# Altium footprint library Microprocessors.PcbLib: 17 footprints (part 1 of 2)
Each footprint in its own frame and in the unit in brackets; x right, y up, seen from the top. Pads: shape width x height; smd on the part's side, far side on the other; paste and mask are expansions set on the pad; w line width, h text height; cw(c..) or ccw(c..) is an arc to the next point about the centre after c.
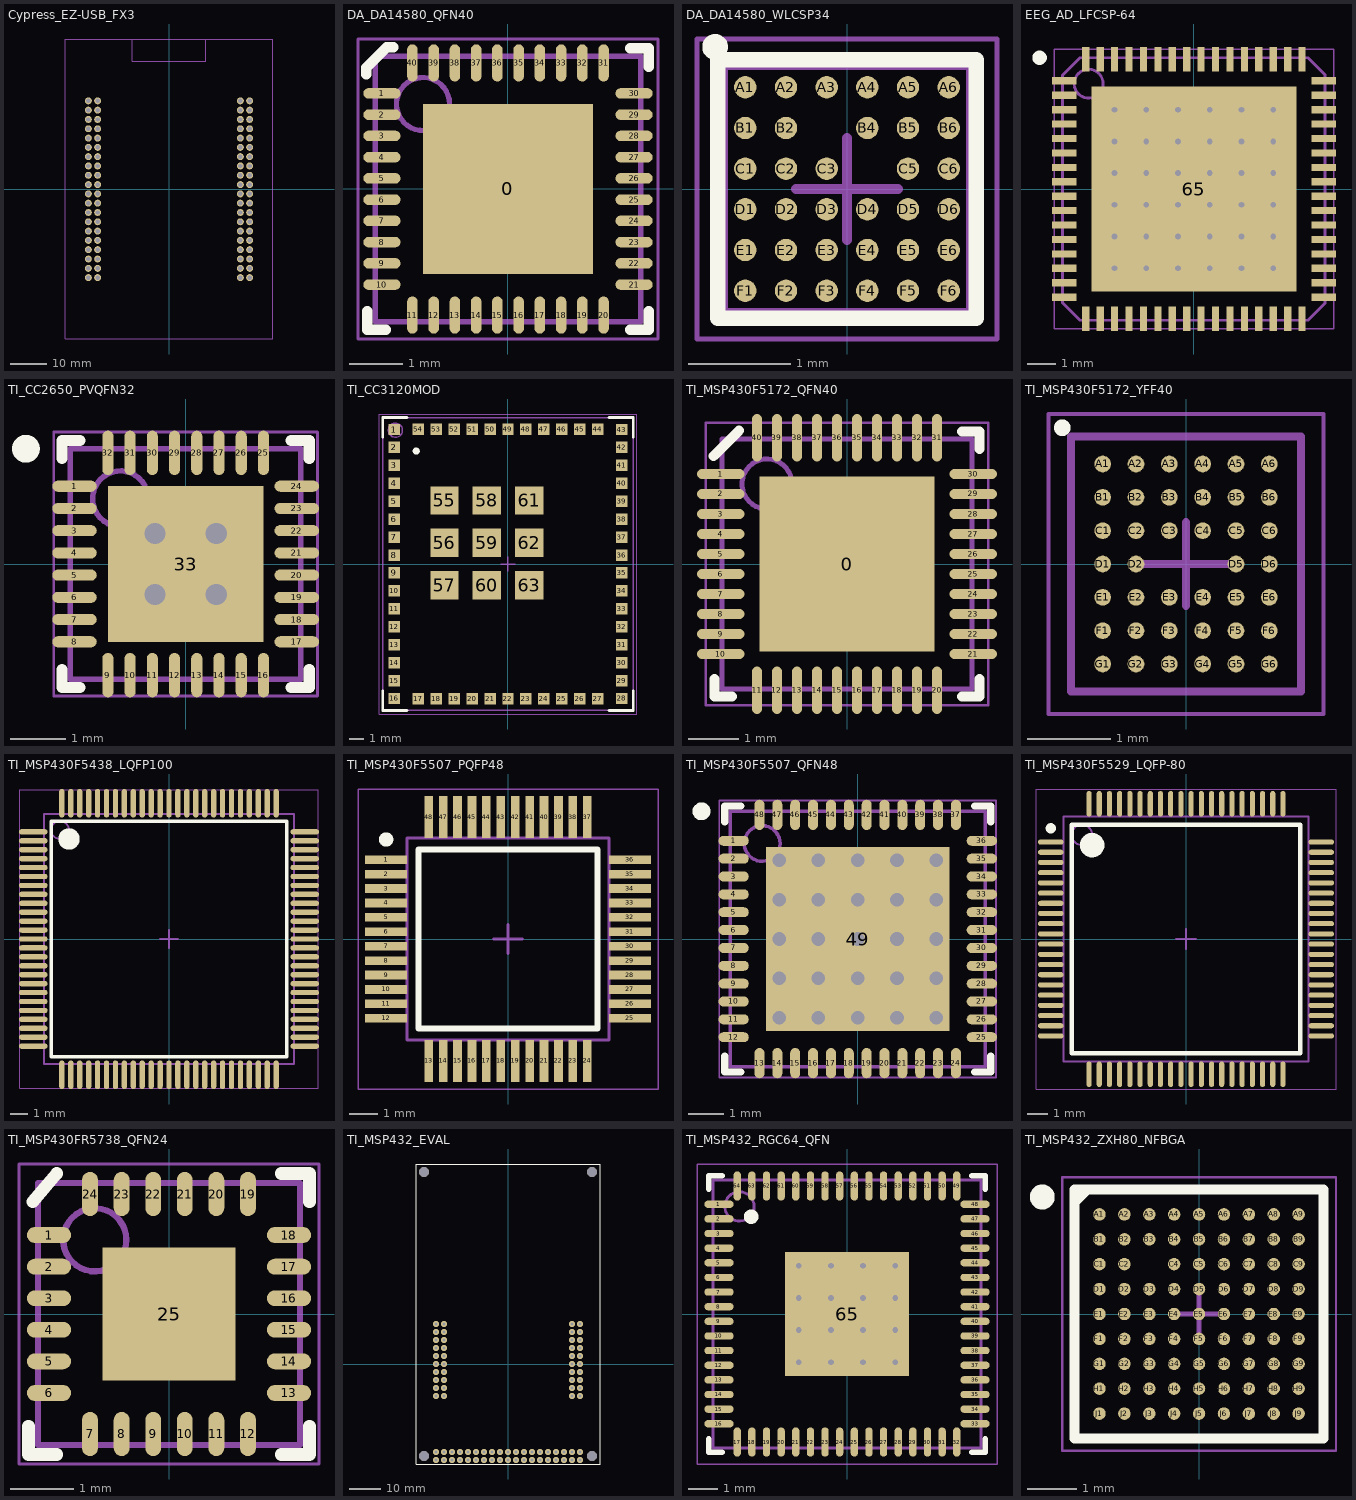
[diagram p0: the footprints below, top view; thin cyan lines are the x and y axes]

## Cypress_EZ-USB_FX3 [mm]
pads (80):
  round 1.9 hole 1.2: 1(-22.02,24.13) 2(-22.02,21.59) 3(-22.02,19.05) 4(-22.02,16.51) 5(-22.02,13.97) 6(-22.02,11.43) 7(-22.02,8.89) 8(-22.02,6.35) 9(-22.02,3.81) 10(-22.02,1.27) 11(-22.02,-1.27) 12(-22.02,-3.81) 13(-22.02,-6.35) 14(-22.02,-8.89) 15(-22.02,-11.43) 16(-22.02,-13.97) 17(-22.02,-16.51) 18(-22.02,-19.05) 19(-22.02,-21.59) 20(-22.02,-24.13) 21(-19.48,24.13) 22(-19.48,21.59) 23(-19.48,19.05) 24(-19.48,16.51) 25(-19.48,13.97) 26(-19.48,11.43) 27(-19.48,8.89) 28(-19.48,6.35) 29(-19.48,3.81) 30(-19.48,1.27) 31(-19.48,-1.27) 32(-19.48,-3.81) 33(-19.48,-6.35) 34(-19.48,-8.89) 35(-19.48,-11.43) 36(-19.48,-13.97) 37(-19.48,-16.51) 38(-19.48,-19.05) 39(-19.48,-21.59) 40(-19.48,-24.13) 41(19.48,24.13) 42(19.48,21.59) 43(19.48,19.05) 44(19.48,16.51) 45(19.48,13.97) 46(19.48,11.43) 47(19.48,8.89) 48(19.48,6.35) 49(19.48,3.81) 50(19.48,1.27) 51(19.48,-1.27) 52(19.48,-3.81) 53(19.48,-6.35) 54(19.48,-8.89) 55(19.48,-11.43) 56(19.48,-13.97) 57(19.48,-16.51) 58(19.48,-19.05) 59(19.48,-21.59) 60(19.48,-24.13) 61(22.02,24.13) 62(22.02,21.59) 63(22.02,19.05) 64(22.02,16.51) 65(22.02,13.97) 66(22.02,11.43) 67(22.02,8.89) 68(22.02,6.35) 69(22.02,3.81) 70(22.02,1.27) 71(22.02,-1.27) 72(22.02,-3.81) 73(22.02,-6.35) 74(22.02,-8.89) 75(22.02,-11.43) 76(22.02,-13.97) 77(22.02,-16.51) 78(22.02,-19.05) 79(22.02,-21.59) 80(22.02,-24.13)
Mechanical 15:
  lines w0.2: -10,41 -10,35 10,35 10,41 ; -28.321,-40.894 -16.51,-40.894 22.225,-40.894 28.321,-40.894 28.321,41.021 7.366,41.021 -22.987,41.021 -28.321,41.021 -28.321,-32.766 -28.321,-40.132 -28.321,-40.894
3D body "Header_.100_20x2.stp": height 8.77, standoff -2.77, extent -23.241,-25.4 -18.161,25.4
3D body "Header_.100_20x2.stp": height 8.77, standoff -2.77, extent 18.161,-25.4 23.241,25.4

## DA_DA14580_QFN40 [mm] "QFN, 40-Leads, Body 5.00x5.00mm, Pitch 0.40mm, Thermal Pad 3.65x3.65mm, IPC High Density"
height 0.9
pads (41):
  rect 3.2x3.2 smd mask+0.05: 0(0,0)
  oval 0.7x0.2 smd mask+0.05: 1(-2.375,1.8) 2(-2.375,1.4) 3(-2.375,1) 4(-2.375,0.6) 5(-2.375,0.2) 6(-2.375,-0.2) 7(-2.375,-0.6) 8(-2.375,-1) 9(-2.375,-1.4) 10(-2.375,-1.8) 21(2.375,-1.8) 22(2.375,-1.4) 23(2.375,-1) 24(2.375,-0.6) 25(2.375,-0.2) 26(2.375,0.2) 27(2.375,0.6) 28(2.375,1) 29(2.375,1.4) 30(2.375,1.8)
  oval 0.2x0.7 smd mask+0.05: 11(-1.8,-2.375) 12(-1.4,-2.375) 13(-1,-2.375) 14(-0.6,-2.375) 15(-0.2,-2.375) 16(0.2,-2.375) 17(0.6,-2.375) 18(1,-2.375) 19(1.4,-2.375) 20(1.8,-2.375) 31(1.8,2.375) 32(1.4,2.375) 33(1,2.375) 34(0.6,2.375) 35(0.2,2.375) 36(-0.2,2.375) 37(-0.6,2.375) 38(-1,2.375) 39(-1.4,2.375) 40(-1.8,2.375)
Top Overlay:
  lines w0.2: -2.667,2.159 -2.667,2.286 -2.3,2.65 ; -2.65,-2.3 -2.65,-2.65 -2.3,-2.65 ; -2.286,2.667 -2.159,2.667 ; 2.3,-2.65 2.65,-2.65 2.65,-2.3 ; 2.3,2.65 2.65,2.65 2.65,2.3
Mechanical 13:
  circle w0.1: c-1.6,1.6 r0.5
  lines w0.1: -2.5,-2.5 -2.5,2.5 2.5,2.5 2.5,-2.5 -2.5,-2.5
Mechanical 15:
  lines w0.05: -2.825,-2.825 -2.825,2.825 2.825,2.825 2.825,-2.825 -2.825,-2.825
  lines w0.1: -0.5,0 0.5,0 ; 0,-0.5 0,0.5
3D body "DA_DA14580_QFN40.step": height 0.9, standoff 0, extent -2.501,-2.501 2.501,2.501

## DA_DA14580_WLCSP34 [mm] "BGA, 34-Leads, Body 2.44x2.44mmx0.55mm, Pitch 0.40mm"
height 0.56
pads (34):
  round 0.22 smd mask+0.04: A1(-1,1) A2(-0.6,1) A3(-0.2,1) A4(0.2,1) A5(0.6,1) A6(1,1) B1(-1,0.6) B2(-0.6,0.6) B4(0.2,0.6) B5(0.6,0.6) B6(1,0.6) C1(-1,0.2) C2(-0.6,0.2) C3(-0.2,0.2) C5(0.6,0.2) C6(1,0.2) D1(-1,-0.2) D2(-0.6,-0.2) D3(-0.2,-0.2) D4(0.2,-0.2) D5(0.6,-0.2) D6(1,-0.2) E1(-1,-0.6) E2(-0.6,-0.6) E3(-0.2,-0.6) E4(0.2,-0.6) E5(0.6,-0.6) E6(1,-0.6) F1(-1,-1) F2(-0.6,-1) F3(-0.2,-1) F4(0.2,-1) F5(0.6,-1) F6(1,-1)
Top Overlay:
  circle w0.152: c-1.297,1.397 r0.05
  lines w0.152: -1.27,-1.27 -1.27,1.27 1.27,1.27 1.27,-1.27 -1.27,-1.27
Mechanical 13:
  lines w0.1: -1.22,-1.22 -1.22,1.22 1.22,1.22 1.22,-1.22 -1.22,-1.22
Mechanical 15:
  lines w0.05: -1.475,-1.475 -1.475,1.475 1.475,1.475 1.475,-1.475 -1.475,-1.475
  lines w0.1: -0.5,0 0.5,0 ; 0,-0.5 0,0.5
3D body "DA_DA14580_WLCSP34.step": height 0.55, standoff 0, extent -1.22,-1.22 1.22,1.22

## EEG_AD_LFCSP-64 [mm] "QFN, 64-Leads, Body 9.00x9.00mm, Pitch 0.50mm, Thermal Pad 7.10x7.10mm, IPC High Density"
height 1
pads (65):
  rect 0.85x0.25 smd mask+0.07: 1(-4.5,3.75) 2(-4.5,3.25) 3(-4.5,2.75) 4(-4.5,2.25) 5(-4.5,1.75) 6(-4.5,1.25) 7(-4.5,0.75) 8(-4.5,0.25) 9(-4.5,-0.25) 10(-4.5,-0.75) 11(-4.5,-1.25) 12(-4.5,-1.75) 13(-4.5,-2.25) 14(-4.5,-2.75) 15(-4.5,-3.25) 16(-4.5,-3.75) 33(4.5,-3.75) 34(4.5,-3.25) 35(4.5,-2.75) 36(4.5,-2.25) 37(4.5,-1.75) 38(4.5,-1.25) 39(4.5,-0.75) 40(4.5,-0.25) 41(4.5,0.25) 42(4.5,0.75) 43(4.5,1.25) 44(4.5,1.75) 45(4.5,2.25) 46(4.5,2.75) 47(4.5,3.25) 48(4.5,3.75)
  rect 0.25x0.85 smd mask+0.07: 17(-3.75,-4.5) 18(-3.25,-4.5) 19(-2.75,-4.5) 20(-2.25,-4.5) 21(-1.75,-4.5) 22(-1.25,-4.5) 23(-0.75,-4.5) 24(-0.25,-4.5) 25(0.25,-4.5) 26(0.75,-4.5) 27(1.25,-4.5) 28(1.75,-4.5) 29(2.25,-4.5) 30(2.75,-4.5) 31(3.25,-4.5) 32(3.75,-4.5) 49(3.75,4.5) 50(3.25,4.5) 51(2.75,4.5) 52(2.25,4.5) 53(1.75,4.5) 54(1.25,4.5) 55(0.75,4.5) 56(0.25,4.5) 57(-0.25,4.5) 58(-0.75,4.5) 59(-1.25,4.5) 60(-1.75,4.5) 61(-2.25,4.5) 62(-2.75,4.5) 63(-3.25,4.5) 64(-3.75,4.5)
  rect 7.1x7.1 smd: 65(0,0)
via 2.75,-2.75 diameter 0.5 hole 0.2
via 1.65,-2.75 diameter 0.5 hole 0.2
via 0.55,-2.75 diameter 0.5 hole 0.2
via -0.55,-2.75 diameter 0.5 hole 0.2
via -1.65,-2.75 diameter 0.5 hole 0.2
via -2.75,-2.75 diameter 0.5 hole 0.2
via 2.75,-1.65 diameter 0.5 hole 0.2
via 1.65,-1.65 diameter 0.5 hole 0.2
via 0.55,-1.65 diameter 0.5 hole 0.2
via -0.55,-1.65 diameter 0.5 hole 0.2
via -1.65,-1.65 diameter 0.5 hole 0.2
via -2.75,-1.65 diameter 0.5 hole 0.2
via 2.75,-0.55 diameter 0.5 hole 0.2
via 1.65,-0.55 diameter 0.5 hole 0.2
via 0.55,-0.55 diameter 0.5 hole 0.2
via -0.55,-0.55 diameter 0.5 hole 0.2
via -1.65,-0.55 diameter 0.5 hole 0.2
via -2.75,-0.55 diameter 0.5 hole 0.2
via 2.75,0.55 diameter 0.5 hole 0.2
via 1.65,0.55 diameter 0.5 hole 0.2
via 0.55,0.55 diameter 0.5 hole 0.2
via -0.55,0.55 diameter 0.5 hole 0.2
via -1.65,0.55 diameter 0.5 hole 0.2
via -2.75,0.55 diameter 0.5 hole 0.2
via 2.75,1.65 diameter 0.5 hole 0.2
via 1.65,1.65 diameter 0.5 hole 0.2
via 0.55,1.65 diameter 0.5 hole 0.2
via -0.55,1.65 diameter 0.5 hole 0.2
via -1.65,1.65 diameter 0.5 hole 0.2
via -2.75,1.65 diameter 0.5 hole 0.2
via 2.75,2.75 diameter 0.5 hole 0.2
via 1.65,2.75 diameter 0.5 hole 0.2
via 0.55,2.75 diameter 0.5 hole 0.2
via -0.55,2.75 diameter 0.5 hole 0.2
via -1.65,2.75 diameter 0.5 hole 0.2
via -2.75,2.75 diameter 0.5 hole 0.2
Top Overlay:
  circle w0.25: c-5.35,4.55 r0.125
Mechanical 13:
  circle w0.1: c-3.65,3.65 r0.5
  lines w0.1: -4.55,-3.95 -4.55,3.95 -3.95,4.55 3.95,4.55 4.55,3.95 4.55,-3.95 3.95,-4.55 -3.95,-4.55 -4.55,-3.95
Mechanical 15:
  lines w0.05: -4.85,-4.85 4.85,-4.85 4.85,4.85 -4.85,4.85 -4.85,-4.85
  lines w0.1: -0.5,0 0.5,0 ; 0,-0.5 0,0.5
3D body "EEG_AD_LFCSP-64.step": height 1, standoff 0, extent -4.551,-4.551 4.551,4.551

## TI_CC2650_PVQFN32 [mm] "QFN, 32-Leads, Body 4.00x4.00mm, Pitch 0.40mm, Thermal Pad 2.80x2.80mm, IPC High Density"
height 1
pads (33):
  oval 0.8x0.2 smd mask+0.023: 1(-2,1.4) 2(-2,1) 3(-2,0.6) 4(-2,0.2) 5(-2,-0.2) 6(-2,-0.6) 7(-2,-1) 8(-2,-1.4) 17(2,-1.4) 18(2,-1) 19(2,-0.6) 20(2,-0.2) 21(2,0.2) 22(2,0.6) 23(2,1) 24(2,1.4)
  oval 0.2x0.8 smd mask+0.023: 9(-1.4,-2) 10(-1,-2) 11(-0.6,-2) 12(-0.2,-2) 13(0.2,-2) 14(0.6,-2) 15(1,-2) 16(1.4,-2) 25(1.4,2) 26(1,2) 27(0.6,2) 28(0.2,2) 29(-0.2,2) 30(-0.6,2) 31(-1,2) 32(-1.4,2)
  rect 2.8x2.8 smd mask+0.023: 33(0,0)
via -0.55,0.55 diameter 0.635 hole 0.381
via 0.55,0.55 diameter 0.635 hole 0.381
via -0.55,-0.55 diameter 0.635 hole 0.381
via 0.55,-0.55 diameter 0.635 hole 0.381
Top Overlay:
  circle w0.25: c-2.875,2.075 r0.125
  lines w0.2: -2.225,-1.9 -2.225,-2.225 -1.9,-2.225 ; -2.225,1.9 -2.225,2.225 -1.9,2.225 ; 1.9,-2.225 2.225,-2.225 2.225,-1.9 ; 1.9,2.225 2.225,2.225 2.225,1.9
Mechanical 13:
  circle w0.1: c-1.175,1.175 r0.5
  lines w0.1: -2.075,-2.075 -2.075,2.075 2.075,2.075 2.075,-2.075 -2.075,-2.075
Mechanical 15:
  lines w0.05: -2.375,-2.375 -2.375,2.375 2.375,2.375 2.375,-2.375 -2.375,-2.375
  lines w0.1: -0.5,0 0.5,0 ; 0,-0.5 0,0.5
3D body "TI_CC2650_PVQFN32.step": height 1, standoff 0, extent -2.125,-2.125 2.125,2.125

## TI_CC3120MOD [mm] "PQFN, 54-Leads, Body 17.50x20.50mm, Pitch 1.27mm, IPC Medium Density"
height 2.45
pads (63):
  rect 0.81x0.81 smd: 1(-8.05,9.525) 2(-8.05,8.255) 3(-8.05,6.985) 4(-8.05,5.715) 5(-8.05,4.445) 6(-8.05,3.175) 7(-8.05,1.905) 8(-8.05,0.635) 9(-8.05,-0.635) 10(-8.05,-1.905) 11(-8.05,-3.175) 12(-8.05,-4.445) 13(-8.05,-5.715) 14(-8.05,-6.985) 15(-8.05,-8.255) 16(-8.05,-9.525) 17(-6.35,-9.55) 18(-5.08,-9.55) 19(-3.81,-9.55) 20(-2.54,-9.55) 21(-1.27,-9.55) 22(0,-9.55) 23(1.27,-9.55) 24(2.54,-9.55) 25(3.81,-9.55) 26(5.08,-9.55) 27(6.35,-9.55) 28(8.05,-9.525) 29(8.05,-8.255) 30(8.05,-6.985) 31(8.05,-5.715) 32(8.05,-4.445) 33(8.05,-3.175) 34(8.05,-1.905) 35(8.05,-0.635) 36(8.05,0.635) 37(8.05,1.905) 38(8.05,3.175) 39(8.05,4.445) 40(8.05,5.715) 41(8.05,6.985) 42(8.05,8.255) 43(8.05,9.525) 44(6.35,9.55) 45(5.08,9.55) 46(3.81,9.55) 47(2.54,9.55) 48(1.27,9.55) 49(0,9.55) 50(-1.27,9.55) 51(-2.54,9.55) 52(-3.81,9.55) 53(-5.08,9.55) 54(-6.35,9.55)
  rect 2x2 smd: 55(-4.5,4.5) 56(-4.5,1.5) 57(-4.5,-1.5) 58(-1.5,4.5) 59(-1.5,1.5) 60(-1.5,-1.5) 61(1.5,4.5) 62(1.5,1.5) 63(1.5,-1.5)
Top Overlay:
  circle w0.25: c-6.5,8 r0.125
  lines w0.2: -8.875,-9 -8.875,-10.375 -7.155,-10.375 ; -8.875,9 -8.875,10.33 ; -8.875,10.375 -7.155,10.375 ; 7.155,-10.375 8.875,-10.375 8.875,-9 ; 7.155,10.375 8.875,10.375 ; 8.875,9 8.875,10.33
Mechanical 13:
  circle w0.1: c-7.975,9.475 r0.5
  lines w0.1: -8.875,-10.375 8.875,-10.375 8.875,10.375 -8.875,10.375 -8.875,-10.375
Mechanical 15:
  lines w0.05: -9.125,-10.625 9.125,-10.625 9.125,10.625 -9.125,10.625 -9.125,-10.625
  lines w0.1: -0.5,0 0.5,0 ; 0,-0.5 0,0.5
3D body "TI_CC3120MOD.step": height 2.45, standoff 0, extent -8.875,-10.375 8.875,10.375

## TI_MSP430F5172_QFN40 [mm] "QFN, 40-Leads, Body 5.00x5.00mm, Pitch 0.40mm, Thermal Pad 3.65x3.65mm, IPC High Density"
height 0.9
pads (41):
  rect 3.5x3.5 smd mask+0.05: 0(0,0)
  oval 0.95x0.2 smd mask+0.05: 1(-2.525,1.8) 2(-2.525,1.4) 3(-2.525,1) 4(-2.525,0.6) 5(-2.525,0.2) 6(-2.525,-0.2) 7(-2.525,-0.6) 8(-2.525,-1) 9(-2.525,-1.4) 10(-2.525,-1.8) 21(2.525,-1.8) 22(2.525,-1.4) 23(2.525,-1) 24(2.525,-0.6) 25(2.525,-0.2) 26(2.525,0.2) 27(2.525,0.6) 28(2.525,1) 29(2.525,1.4) 30(2.525,1.8)
  oval 0.2x0.95 smd mask+0.05: 11(-1.8,-2.525) 12(-1.4,-2.525) 13(-1,-2.525) 14(-0.6,-2.525) 15(-0.2,-2.525) 16(0.2,-2.525) 17(0.6,-2.525) 18(1,-2.525) 19(1.4,-2.525) 20(1.8,-2.525) 31(1.8,2.525) 32(1.4,2.525) 33(1,2.525) 34(0.6,2.525) 35(0.2,2.525) 36(-0.2,2.525) 37(-0.6,2.525) 38(-1,2.525) 39(-1.4,2.525) 40(-1.8,2.525)
Top Overlay:
  lines w0.2: -2.667,2.159 -2.159,2.667 ; -2.65,-2.3 -2.65,-2.65 -2.3,-2.65 ; 2.3,-2.65 2.65,-2.65 2.65,-2.3 ; 2.3,2.65 2.65,2.65 2.65,2.3
Mechanical 13:
  circle w0.1: c-1.6,1.6 r0.5
  lines w0.1: -2.5,-2.5 -2.5,2.5 2.5,2.5 2.5,-2.5 -2.5,-2.5
Mechanical 15:
  lines w0.05: -2.825,-2.825 -2.825,2.825 2.825,2.825 2.825,-2.825 -2.825,-2.825
  lines w0.1: -0.5,0 0.5,0 ; 0,-0.5 0,0.5
3D body "DA_DA14580_QFN40.step": height 0.9, standoff 0, extent -2.501,-2.501 2.501,2.501

## TI_MSP430F5172_YFF40 [mm] "BGA, 42-Leads, Body 2.76x3.06mmx0.63mm, Pitch 0.40mm"
height 0.63
pads (40):
  round 0.2 smd mask+0.05: A1(-1,1.2) A2(-0.6,1.2) A3(-0.2,1.2) A4(0.2,1.2) A5(0.6,1.2) A6(1,1.2) B1(-1,0.8) B2(-0.6,0.8) B3(-0.2,0.8) B4(0.2,0.8) B5(0.6,0.8) B6(1,0.8) C1(-1,0.4) C2(-0.6,0.4) C3(-0.2,0.4) C4(0.2,0.4) C5(0.6,0.4) C6(1,0.4) D1(-1,0) D2(-0.6,0) D5(0.6,0) D6(1,0) E1(-1,-0.4) E2(-0.6,-0.4) E3(-0.2,-0.4) E4(0.2,-0.4) E5(0.6,-0.4) E6(1,-0.4) F1(-1,-0.8) F2(-0.6,-0.8) F3(-0.2,-0.8) F4(0.2,-0.8) F5(0.6,-0.8) F6(1,-0.8) G1(-1,-1.2) G2(-0.6,-1.2) G3(-0.2,-1.2) G4(0.2,-1.2) G5(0.6,-1.2) G6(1,-1.2)
Top Overlay:
  circle w0.1: c-1.485,1.635 r0.05
Mechanical 13:
  lines w0.1: -1.38,-1.53 -1.38,1.53 1.38,1.53 1.38,-1.53 -1.38,-1.53
Mechanical 15:
  lines w0.05: -1.65,-1.8 -1.65,1.8 1.65,1.8 1.65,-1.8 -1.65,-1.8
  lines w0.1: -0.5,0 0.5,0 ; 0,-0.5 0,0.5
3D body "TI_MSP430F5172_YFF40.step": height 0.63, standoff 0, extent -1.38,-1.53 1.38,1.53

## TI_MSP430F5438_LQFP100 [mm] "TSQFP, 100-Leads, Body 14.00x14.00mm, Pitch 0.50mm, IPC High Density"
height 1.6
pads (100):
  oval 1.6x0.3 smd mask+0.05: 1(-7.6,6) 2(-7.6,5.5) 3(-7.6,5) 4(-7.6,4.5) 5(-7.6,4) 6(-7.6,3.5) 7(-7.6,3) 8(-7.6,2.5) 9(-7.6,2) 10(-7.6,1.5) 11(-7.6,1) 12(-7.6,0.5) 13(-7.6,0) 14(-7.6,-0.5) 15(-7.6,-1) 16(-7.6,-1.5) 17(-7.6,-2) 18(-7.6,-2.5) 19(-7.6,-3) 20(-7.6,-3.5) 21(-7.6,-4) 22(-7.6,-4.5) 23(-7.6,-5) 24(-7.6,-5.5) 25(-7.6,-6) 51(7.6,-6) 52(7.6,-5.5) 53(7.6,-5) 54(7.6,-4.5) 55(7.6,-4) 56(7.6,-3.5) 57(7.6,-3) 58(7.6,-2.5) 59(7.6,-2) 60(7.6,-1.5) 61(7.6,-1) 62(7.6,-0.5) 63(7.6,0) 64(7.6,0.5) 65(7.6,1) 66(7.6,1.5) 67(7.6,2) 68(7.6,2.5) 69(7.6,3) 70(7.6,3.5) 71(7.6,4) 72(7.6,4.5) 73(7.6,5) 74(7.6,5.5) 75(7.6,6)
  oval 0.3x1.6 smd mask+0.05: 26(-6,-7.6) 27(-5.5,-7.6) 28(-5,-7.6) 29(-4.5,-7.6) 30(-4,-7.6) 31(-3.5,-7.6) 32(-3,-7.6) 33(-2.5,-7.6) 34(-2,-7.6) 35(-1.5,-7.6) 36(-1,-7.6) 37(-0.5,-7.6) 38(0,-7.6) 39(0.5,-7.6) 40(1,-7.6) 41(1.5,-7.6) 42(2,-7.6) 43(2.5,-7.6) 44(3,-7.6) 45(3.5,-7.6) 46(4,-7.6) 47(4.5,-7.6) 48(5,-7.6) 49(5.5,-7.6) 50(6,-7.6) 76(6,7.6) 77(5.5,7.6) 78(5,7.6) 79(4.5,7.6) 80(4,7.6) 81(3.5,7.6) 82(3,7.6) 83(2.5,7.6) 84(2,7.6) 85(1.5,7.6) 86(1,7.6) 87(0.5,7.6) 88(0,7.6) 89(-0.5,7.6) 90(-1,7.6) 91(-1.5,7.6) 92(-2,7.6) 93(-2.5,7.6) 94(-3,7.6) 95(-3.5,7.6) 96(-4,7.6) 97(-4.5,7.6) 98(-5,7.6) 99(-5.5,7.6) 100(-6,7.6)
Top Overlay:
  circle w0.6: c-5.6,5.6 r0.3
  lines w0.2: -6.6,-6.6 6.6,-6.6 6.6,6.6 -6.6,6.6 -6.6,-6.6
Mechanical 13:
  circle w0.1: c-6.1,6.1 r0.5
  lines w0.1: -7,-7 7,-7 7,7 -7,7 -7,-7
Mechanical 15:
  lines w0.05: -8.35,-8.35 8.35,-8.35 8.35,8.35 -8.35,8.35 -8.35,-8.35
  lines w0.1: -0.5,0 0.5,0 ; 0,-0.5 0,0.5
3D body "TI_MSP430F5438_LQFP100.step": height 1.6, standoff 0, extent -8,-8 8,8

## TI_MSP430F5507_PQFP48 [mm] "TSQFP, 48-Leads, Body 7.00x7.00mm, Pitch 0.50mm, IPC Medium Density"
height 1.6
pads (48):
  rect 1.45x0.3 smd mask+0.01: 1(-4.225,2.75) 2(-4.225,2.25) 3(-4.225,1.75) 4(-4.225,1.25) 5(-4.225,0.75) 6(-4.225,0.25) 7(-4.225,-0.25) 8(-4.225,-0.75) 9(-4.225,-1.25) 10(-4.225,-1.75) 11(-4.225,-2.25) 12(-4.225,-2.75) 25(4.225,-2.75) 26(4.225,-2.25) 27(4.225,-1.75) 28(4.225,-1.25) 29(4.225,-0.75) 30(4.225,-0.25) 31(4.225,0.25) 32(4.225,0.75) 33(4.225,1.25) 34(4.225,1.75) 35(4.225,2.25) 36(4.225,2.75)
  rect 0.3x1.45 smd mask+0.01: 13(-2.75,-4.225) 14(-2.25,-4.225) 15(-1.75,-4.225) 16(-1.25,-4.225) 17(-0.75,-4.225) 18(-0.25,-4.225) 19(0.25,-4.225) 20(0.75,-4.225) 21(1.25,-4.225) 22(1.75,-4.225) 23(2.25,-4.225) 24(2.75,-4.225) 37(2.75,4.225) 38(2.25,4.225) 39(1.75,4.225) 40(1.25,4.225) 41(0.75,4.225) 42(0.25,4.225) 43(-0.25,4.225) 44(-0.75,4.225) 45(-1.25,4.225) 46(-1.75,4.225) 47(-2.25,4.225) 48(-2.75,4.225)
Top Overlay:
  circle w0.25: c-4.225,3.45 r0.125
  lines w0.2: -3.1,-3.1 -3.1,3.1 3.1,3.1 3.1,-3.1 -3.1,-3.1
Mechanical 13:
  lines w0.1: -3.5,-3.5 -3.5,3.5 3.5,3.5 3.5,-3.5 -3.5,-3.5
Mechanical 15:
  lines w0.05: -5.2,-5.2 -5.2,5.2 5.2,5.2 5.2,-5.2 -5.2,-5.2
  lines w0.1: -0.5,0 0.5,0 ; 0,-0.5 0,0.5
3D body "PQFP48_7mmX7mm.step": height 1.6, standoff 0, extent -4.5,-4.5 4.5,4.5

## TI_MSP430F5507_QFN48 [mm] "QFN, 48-Leads, Body 7.00x7.00mm, Pitch 0.50mm, Thermal Pad 5.15x5.15mm, IPC High Density"
height 1
pads (49):
  oval 0.85x0.28 smd mask+0.025: 1(-3.475,2.75) 2(-3.475,2.25) 3(-3.475,1.75) 4(-3.475,1.25) 5(-3.475,0.75) 6(-3.475,0.25) 7(-3.475,-0.25) 8(-3.475,-0.75) 9(-3.475,-1.25) 10(-3.475,-1.75) 11(-3.475,-2.25) 12(-3.475,-2.75) 25(3.475,-2.75) 26(3.475,-2.25) 27(3.475,-1.75) 28(3.475,-1.25) 29(3.475,-0.75) 30(3.475,-0.25) 31(3.475,0.25) 32(3.475,0.75) 33(3.475,1.25) 34(3.475,1.75) 35(3.475,2.25) 36(3.475,2.75)
  oval 0.28x0.85 smd mask+0.025: 13(-2.75,-3.475) 14(-2.25,-3.475) 15(-1.75,-3.475) 16(-1.25,-3.475) 17(-0.75,-3.475) 18(-0.25,-3.475) 19(0.25,-3.475) 20(0.75,-3.475) 21(1.25,-3.475) 22(1.75,-3.475) 23(2.25,-3.475) 24(2.75,-3.475) 37(2.75,3.475) 38(2.25,3.475) 39(1.75,3.475) 40(1.25,3.475) 41(0.75,3.475) 42(0.25,3.475) 43(-0.25,3.475) 44(-0.75,3.475) 45(-1.25,3.475) 46(-1.75,3.475) 47(-2.25,3.475) 48(-2.75,3.475)
  rect 5.15x5.15 smd: 49(0,0)
via -2.2,2.2 diameter 0.635 hole 0.381
via -1.1,2.2 diameter 0.635 hole 0.381
via 0,2.2 diameter 0.635 hole 0.381
via 1.1,2.2 diameter 0.635 hole 0.381
via 2.2,2.2 diameter 0.635 hole 0.381
via -2.2,1.1 diameter 0.635 hole 0.381
via -1.1,1.1 diameter 0.635 hole 0.381
via 0,1.1 diameter 0.635 hole 0.381
via 1.1,1.1 diameter 0.635 hole 0.381
via 2.2,1.1 diameter 0.635 hole 0.381
via -2.2,0 diameter 0.635 hole 0.381
via -1.1,0 diameter 0.635 hole 0.381
via 0,0 diameter 0.635 hole 0.381
via 1.1,0 diameter 0.635 hole 0.381
via 2.2,0 diameter 0.635 hole 0.381
via -2.2,-1.1 diameter 0.635 hole 0.381
via -1.1,-1.1 diameter 0.635 hole 0.381
via 0,-1.1 diameter 0.635 hole 0.381
via 1.1,-1.1 diameter 0.635 hole 0.381
via 2.2,-1.1 diameter 0.635 hole 0.381
via -2.2,-2.2 diameter 0.635 hole 0.381
via -1.1,-2.2 diameter 0.635 hole 0.381
via 0,-2.2 diameter 0.635 hole 0.381
via 1.1,-2.2 diameter 0.635 hole 0.381
via 2.2,-2.2 diameter 0.635 hole 0.381
Top Overlay:
  circle w0.25: c-4.375,3.575 r0.125
  lines w0.2: -3.725,-3.275 -3.725,-3.725 -3.275,-3.725 ; -3.725,3.275 -3.725,3.725 -3.275,3.725 ; 3.275,-3.725 3.725,-3.725 3.725,-3.275 ; 3.275,3.725 3.725,3.725 3.725,3.275
Mechanical 13:
  circle w0.1: c-2.675,2.675 r0.5
  lines w0.1: -3.575,-3.575 -3.575,3.575 3.575,3.575 3.575,-3.575 -3.575,-3.575
Mechanical 15:
  lines w0.05: -3.875,-3.875 -3.875,3.875 3.875,3.875 3.875,-3.875 -3.875,-3.875
  lines w0.1: -0.5,0 0.5,0 ; 0,-0.5 0,0.5
3D body "TI_MSP430F5507_QFN48.step": height 1, standoff 0, extent -3.655,-3.655 3.655,3.655

## TI_MSP430F5529_LQFP-80 [mm] "TSQFP, 80-Leads, Body 12.00x12.00mm, Pitch 0.50mm, IPC High Density"
height 1.45
pads (80):
  oval 1.25x0.25 smd: 1(-6.625,4.75) 2(-6.625,4.25) 3(-6.625,3.75) 4(-6.625,3.25) 5(-6.625,2.75) 6(-6.625,2.25) 7(-6.625,1.75) 8(-6.625,1.25) 9(-6.625,0.75) 10(-6.625,0.25) 11(-6.625,-0.25) 12(-6.625,-0.75) 13(-6.625,-1.25) 14(-6.625,-1.75) 15(-6.625,-2.25) 16(-6.625,-2.75) 17(-6.625,-3.25) 18(-6.625,-3.75) 19(-6.625,-4.25) 20(-6.625,-4.75) 41(6.625,-4.75) 42(6.625,-4.25) 43(6.625,-3.75) 44(6.625,-3.25) 45(6.625,-2.75) 46(6.625,-2.25) 47(6.625,-1.75) 48(6.625,-1.25) 49(6.625,-0.75) 50(6.625,-0.25) 51(6.625,0.25) 52(6.625,0.75) 53(6.625,1.25) 54(6.625,1.75) 55(6.625,2.25) 56(6.625,2.75) 57(6.625,3.25) 58(6.625,3.75) 59(6.625,4.25) 60(6.625,4.75)
  oval 0.25x1.25 smd: 21(-4.75,-6.625) 22(-4.25,-6.625) 23(-3.75,-6.625) 24(-3.25,-6.625) 25(-2.75,-6.625) 26(-2.25,-6.625) 27(-1.75,-6.625) 28(-1.25,-6.625) 29(-0.75,-6.625) 30(-0.25,-6.625) 31(0.25,-6.625) 32(0.75,-6.625) 33(1.25,-6.625) 34(1.75,-6.625) 35(2.25,-6.625) 36(2.75,-6.625) 37(3.25,-6.625) 38(3.75,-6.625) 39(4.25,-6.625) 40(4.75,-6.625) 61(4.75,6.625) 62(4.25,6.625) 63(3.75,6.625) 64(3.25,6.625) 65(2.75,6.625) 66(2.25,6.625) 67(1.75,6.625) 68(1.25,6.625) 69(0.75,6.625) 70(0.25,6.625) 71(-0.25,6.625) 72(-0.75,6.625) 73(-1.25,6.625) 74(-1.75,6.625) 75(-2.25,6.625) 76(-2.75,6.625) 77(-3.25,6.625) 78(-3.75,6.625) 79(-4.25,6.625) 80(-4.75,6.625)
Top Overlay:
  circle w0.25: c-6.625,5.425 r0.125
  circle w0.6: c-4.6,4.6 r0.3
  lines w0.2: -5.6,-5.6 -5.6,5.6 5.6,5.6 5.6,-5.6 -5.6,-5.6
Mechanical 13:
  circle w0.1: c-5.1,5.1 r0.5
  lines w0.1: -6,-6 -6,6 6,6 6,-6 -6,-6
Mechanical 15:
  lines w0.05: -7.35,-7.35 -7.35,7.35 7.35,7.35 7.35,-7.35 -7.35,-7.35
  lines w0.1: -0.5,0 0.5,0 ; 0,-0.5 0,0.5
3D body "TI_MSP430F5529_LQFP-80.step": height 1.45, standoff 0, extent -7,-7 7,7

## TI_MSP430FR5738_QFN24 [mm] "QFN, 24-Leads, Body 4.00x4.00mm, Pitch 0.50mm, Thermal Pad 2.10x2.10mm, IPC High Density"
height 1
pads (25):
  oval 0.7x0.25 smd mask+0.05: 1(-1.9,1.25) 2(-1.9,0.75) 3(-1.9,0.25) 4(-1.9,-0.25) 5(-1.9,-0.75) 6(-1.9,-1.25) 13(1.9,-1.25) 14(1.9,-0.75) 15(1.9,-0.25) 16(1.9,0.25) 17(1.9,0.75) 18(1.9,1.25)
  oval 0.25x0.7 smd mask+0.05: 7(-1.25,-1.9) 8(-0.75,-1.9) 9(-0.25,-1.9) 10(0.25,-1.9) 11(0.75,-1.9) 12(1.25,-1.9) 19(1.25,1.9) 20(0.75,1.9) 21(0.25,1.9) 22(-0.25,1.9) 23(-0.75,1.9) 24(-1.25,1.9)
  rect 2.1x2.1 smd: 25(0,0)
Top Overlay:
  lines w0.2: -2.225,-1.775 -2.225,-2.225 -1.775,-2.225 ; -2.159,1.778 -1.775,2.225 ; 1.775,-2.225 2.225,-2.225 2.225,-1.775 ; 1.775,2.225 2.225,2.225 2.225,1.775
Mechanical 13:
  circle w0.1: c-1.175,1.175 r0.5
  lines w0.1: -2.075,-2.075 2.075,-2.075 2.075,2.075 -2.075,2.075 -2.075,-2.075
Mechanical 15:
  lines w0.05: -2.375,-2.375 2.375,-2.375 2.375,2.375 -2.375,2.375 -2.375,-2.375
  lines w0.1: -0.5,0 0.5,0 ; 0,-0.5 0,0.5
3D body "TI_MSP430FR5738_QFN24.step": height 1, standoff 0, extent -2.076,-2.076 2.076,2.076

## TI_MSP432_EVAL [mm]
pads (82):
  round 1.9 hole 1: 1(-22.86,12.7) 2(-20.32,12.7) 3(-22.86,10.16) 4(-20.32,10.16) 5(-22.86,7.62) 6(-20.32,7.62) 7(-22.86,5.08) 8(-20.32,5.08) 9(-22.86,2.54) 10(-20.32,2.54) 11(-22.86,0) 12(-20.32,0) 13(-22.86,-2.54) 14(-20.32,-2.54) 15(-22.86,-5.08) 16(-20.32,-5.08) 17(-22.86,-7.62) 18(-20.32,-7.62) 19(-22.86,-10.16) 20(-20.32,-10.16) 21(-22.86,-27.94) 22(-22.86,-30.48) 23(-20.32,-27.94) 24(-20.32,-30.48) 25(-17.78,-27.94) 26(-17.78,-30.48) 27(-15.24,-27.94) 28(-15.24,-30.48) 29(-12.7,-27.94) 30(-12.7,-30.48) 31(-10.16,-27.94) 32(-10.16,-30.48) 33(-7.62,-27.94) 34(-7.62,-30.48) 35(-5.08,-27.94) 36(-5.08,-30.48) 37(-2.54,-27.94) 38(-2.54,-30.48) 39(0,-27.94) 40(0,-30.48) 41(2.54,-27.94) 42(2.54,-30.48) 43(5.08,-27.94) 44(5.08,-30.48) 45(7.62,-27.94) 46(7.62,-30.48) 47(10.16,-27.94) 48(10.16,-30.48) 49(12.7,-27.94) 50(12.7,-30.48) 51(15.24,-27.94) 52(15.24,-30.48) 53(17.78,-27.94) 54(17.78,-30.48) 55(20.32,-27.94) 56(20.32,-30.48) 57(22.86,-27.94) 58(22.86,-30.48) 59(22.86,-10.16) 60(20.32,-10.16) 61(22.86,-7.62) 62(20.32,-7.62) 63(22.86,-5.08) 64(20.32,-5.08) 65(22.86,-2.54) 66(20.32,-2.54) 67(22.86,0) 68(20.32,0) 69(22.86,2.54) 70(20.32,2.54) 71(22.86,5.08) 72(20.32,5.08) 73(22.86,7.62) 74(20.32,7.62) 75(22.86,10.16) 76(20.32,10.16) 77(22.86,12.7) 78(20.32,12.7)
  round 3.175 hole 3.175: ""(-26.67,-29.21) ""(-26.67,60.96) ""(26.67,-29.21) ""(26.67,60.96)
Top Overlay:
  lines w0.152: -29.21,-31.75 29.21,-31.75 29.21,63.5 -29.21,63.5 -29.21,-31.75
3D body "Header_.100_19x2.stp": height 2.54, standoff -8.38, extent -24.13,-31.75 24.13,-26.67
3D body "Header_.100_10x2.stp": height 2.54, standoff -8.38, extent -24.13,-11.43 -19.05,13.97
3D body "Header_.100_10x2.stp": height 2.54, standoff -8.38, extent 19.05,-11.43 24.13,13.97

## TI_MSP432_RGC64_QFN [mm] "QFN, 64-Leads, Body 9.00x9.00mm, Pitch 0.50mm, Thermal Pad 4.25x4.25mm, IPC Medium Density"
height 1
pads (65):
  oval 1x0.25 smd: 1(-4.375,3.75) 2(-4.375,3.25) 3(-4.375,2.75) 4(-4.375,2.25) 5(-4.375,1.75) 6(-4.375,1.25) 7(-4.375,0.75) 8(-4.375,0.25) 9(-4.375,-0.25) 10(-4.375,-0.75) 11(-4.375,-1.25) 12(-4.375,-1.75) 13(-4.375,-2.25) 14(-4.375,-2.75) 15(-4.375,-3.25) 16(-4.375,-3.75) 33(4.375,-3.75) 34(4.375,-3.25) 35(4.375,-2.75) 36(4.375,-2.25) 37(4.375,-1.75) 38(4.375,-1.25) 39(4.375,-0.75) 40(4.375,-0.25) 41(4.375,0.25) 42(4.375,0.75) 43(4.375,1.25) 44(4.375,1.75) 45(4.375,2.25) 46(4.375,2.75) 47(4.375,3.25) 48(4.375,3.75)
  oval 0.25x1 smd: 17(-3.75,-4.375) 18(-3.25,-4.375) 19(-2.75,-4.375) 20(-2.25,-4.375) 21(-1.75,-4.375) 22(-1.25,-4.375) 23(-0.75,-4.375) 24(-0.25,-4.375) 25(0.25,-4.375) 26(0.75,-4.375) 27(1.25,-4.375) 28(1.75,-4.375) 29(2.25,-4.375) 30(2.75,-4.375) 31(3.25,-4.375) 32(3.75,-4.375) 49(3.75,4.375) 50(3.25,4.375) 51(2.75,4.375) 52(2.25,4.375) 53(1.75,4.375) 54(1.25,4.375) 55(0.75,4.375) 56(0.25,4.375) 57(-0.25,4.375) 58(-0.75,4.375) 59(-1.25,4.375) 60(-1.75,4.375) 61(-2.25,4.375) 62(-2.75,4.375) 63(-3.25,4.375) 64(-3.75,4.375)
  rect 4.25x4.25 smd: 65(0,0)
via 1.65,-1.65 diameter 0.5 hole 0.2
via 0.55,-1.65 diameter 0.5 hole 0.2
via -0.55,-1.65 diameter 0.5 hole 0.2
via -1.65,-1.65 diameter 0.5 hole 0.2
via 1.65,-0.55 diameter 0.5 hole 0.2
via 0.55,-0.55 diameter 0.5 hole 0.2
via -0.55,-0.55 diameter 0.5 hole 0.2
via -1.65,-0.55 diameter 0.5 hole 0.2
via 1.65,0.55 diameter 0.5 hole 0.2
via 0.55,0.55 diameter 0.5 hole 0.2
via -0.55,0.55 diameter 0.5 hole 0.2
via -1.65,0.55 diameter 0.5 hole 0.2
via 1.65,1.65 diameter 0.5 hole 0.2
via 0.55,1.65 diameter 0.5 hole 0.2
via -0.55,1.65 diameter 0.5 hole 0.2
via -1.65,1.65 diameter 0.5 hole 0.2
Top Overlay:
  circle w0.25: c-3.275,3.325 r0.125
  lines w0.2: -4.725,-4.275 -4.725,-4.725 -4.275,-4.725 ; -4.725,4.275 -4.725,4.725 -4.275,4.725 ; 4.275,-4.725 4.725,-4.725 4.725,-4.275 ; 4.275,4.725 4.725,4.725 4.725,4.275
Mechanical 13:
  circle w0.1: c-3.675,3.675 r0.5
  lines w0.1: -4.575,-4.575 4.575,-4.575 4.575,4.575 -4.575,4.575 -4.575,-4.575
Mechanical 15:
  lines w0.05: -5.125,-5.125 5.125,-5.125 5.125,5.125 -5.125,5.125 -5.125,-5.125
  lines w0.1: -0.5,0 0.5,0 ; 0,-0.5 0,0.5
3D body "TI_MSP432_RGC64_QFN.step": height 1, standoff 0, extent -4.576,-4.576 4.576,4.576

## TI_MSP432_ZXH80_NFBGA [mm] "BGA, 80-Leads, Body 5.00x5.00mmx1.00mm, Pitch 0.50mm"
height 1
pads (80):
  round 0.25 smd mask+0.03: A1(-2,2) A2(-1.5,2) A3(-1,2) A4(-0.5,2) A5(0,2) A6(0.5,2) A7(1,2) A8(1.5,2) A9(2,2) B1(-2,1.5) B2(-1.5,1.5) B3(-1,1.5) B4(-0.5,1.5) B5(0,1.5) B6(0.5,1.5) B7(1,1.5) B8(1.5,1.5) B9(2,1.5) C1(-2,1) C2(-1.5,1) C4(-0.5,1) C5(0,1) C6(0.5,1) C7(1,1) C8(1.5,1) C9(2,1) D1(-2,0.5) D2(-1.5,0.5) D3(-1,0.5) D4(-0.5,0.5) D5(0,0.5) D6(0.5,0.5) D7(1,0.5) D8(1.5,0.5) D9(2,0.5) E1(-2,0) E2(-1.5,0) E3(-1,0) E4(-0.5,0) E5(0,0) E6(0.5,0) E7(1,0) E8(1.5,0) E9(2,0) F1(-2,-0.5) F2(-1.5,-0.5) F3(-1,-0.5) F4(-0.5,-0.5) F5(0,-0.5) F6(0.5,-0.5) F7(1,-0.5) F8(1.5,-0.5) F9(2,-0.5) G1(-2,-1) G2(-1.5,-1) G3(-1,-1) G4(-0.5,-1) G5(0,-1) G6(0.5,-1) G7(1,-1) G8(1.5,-1) G9(2,-1) H1(-2,-1.5) H2(-1.5,-1.5) H3(-1,-1.5) H4(-0.5,-1.5) H5(0,-1.5) H6(0.5,-1.5) H7(1,-1.5) H8(1.5,-1.5) H9(2,-1.5) J1(-2,-2) J2(-1.5,-2) J3(-1,-2) J4(-0.5,-2) J5(0,-2) J6(0.5,-2) J7(1,-2) J8(1.5,-2) J9(2,-2)
Top Overlay:
  circle w0.25: c-3.15,2.35 r0.125
  region: -2.242,2.5 -2.5,2.242 -2.5,2.5
  lines w0.2: -2.5,2.242 -2.242,2.5 ; -2.5,-2.5 2.5,-2.5 2.5,2.5 -2.5,2.5 -2.5,-2.5
Mechanical 13:
  lines w0.1: -2.5,-2.5 2.5,-2.5 2.5,2.5 -2.5,2.5 -2.5,-2.5
Mechanical 15:
  lines w0.05: -2.75,-2.75 2.75,-2.75 2.75,2.75 -2.75,2.75 -2.75,-2.75
  lines w0.1: -0.5,0 0.5,0 ; 0,-0.5 0,0.5
3D body "TI_MSP432_ZXH80_NFBGA.step": height 1, standoff 0, extent -2.5,-2.5 2.5,2.5